# EAGLE library part ADP1706ARDZ-1.1-R7 (library Roboracing)
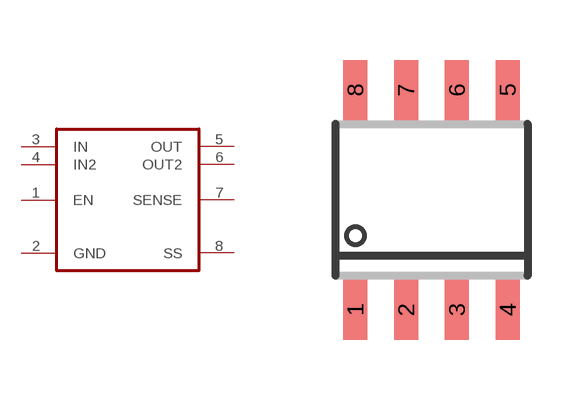
[diagram p7: symbol with the pads of SOIC8; footprint SOIC8]

Designator prefix U

## ADP1706ARDZ-1.1-R7  [SOIC8]
1  EN
2  GND
3  IN
4  IN2
5  OUT
6  OUT2
7  SENSE
8  SS

## Footprint SOIC8 (pad centres in mm)
SOIC-8 CASE 751-07 Source: http://www.onsemi.com/pub/Collateral/MC34164-D.PDF D (R-PDSO-G8)PLATIC SMALL-OUTLINE PACKAGE Source: http://focus.ti.com/lit/ds/symlink/tlc27l2.pdf
smd 0.6 x 1.5: 1 -1.905,-2.75; 2 -0.635,-2.75; 3 0.635,-2.75; 4 1.905,-2.75; 5 1.905,2.75; 6 0.635,2.75; 7 -0.635,2.75; 8 -1.905,2.75